# EAGLE library part 2X4-SMT (library Neel)
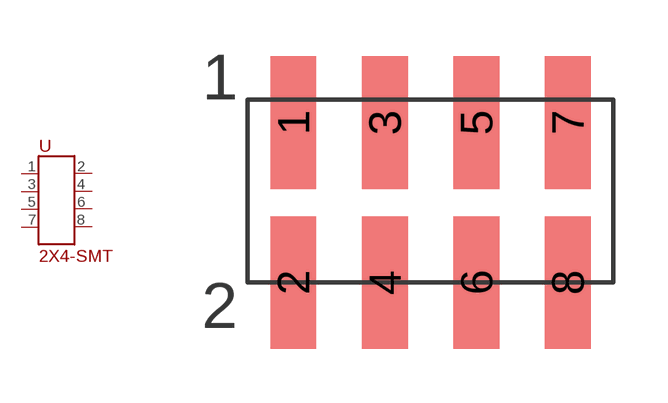
[diagram p70: symbol with the pads of 2X4-SMT; footprint 2X4-SMT]

Designator prefix -

## 2X4-SMT  [2X4-SMT]
1  P$1
2  P$2
3  P$3
4  P$4
5  P$5
6  P$6
7  P$7
8  P$8

## Footprint 2X4-SMT (pad centres in mm)
smd 1.27 x 3.683: 1 -3.81,1.905; 2 -3.81,-2.54; 3 -1.27,1.905; 4 -1.27,-2.54; 5 1.27,1.905; 6 1.27,-2.54; 7 3.81,1.905; 8 3.81,-2.54